# Altium integrated library GRM033R61E431KA01D.IntLib: 1 symbol
Pins are listed as number, name and electrical type; pins without a type are passive.

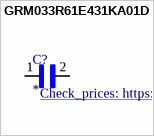
[diagram p0: symbol GRM033R61E431KA01D]

## GRM033R61E431KA01D
designator C?
Ceramic Capacitor; MP: GRM033R61E431KA01D; MF: Murata; Package: 0201 Murata; Availability: Warning; Value: *; Price: None; SnapEDA_Link: https://www.snapeda.com/parts/GRM033R61E431KA01D/Murata/view-part/1887620/?ref=snap; Check_prices: https://www.snapeda.com/parts/GRM033R61E431KA01D/Murata/view-part/1887620/?ref=eda
footprint CAPC0603X33N
pins: 1, 2